# Altium integrated library NSC MiscPower.IntLib: 1417 symbols (part 5 of 39)
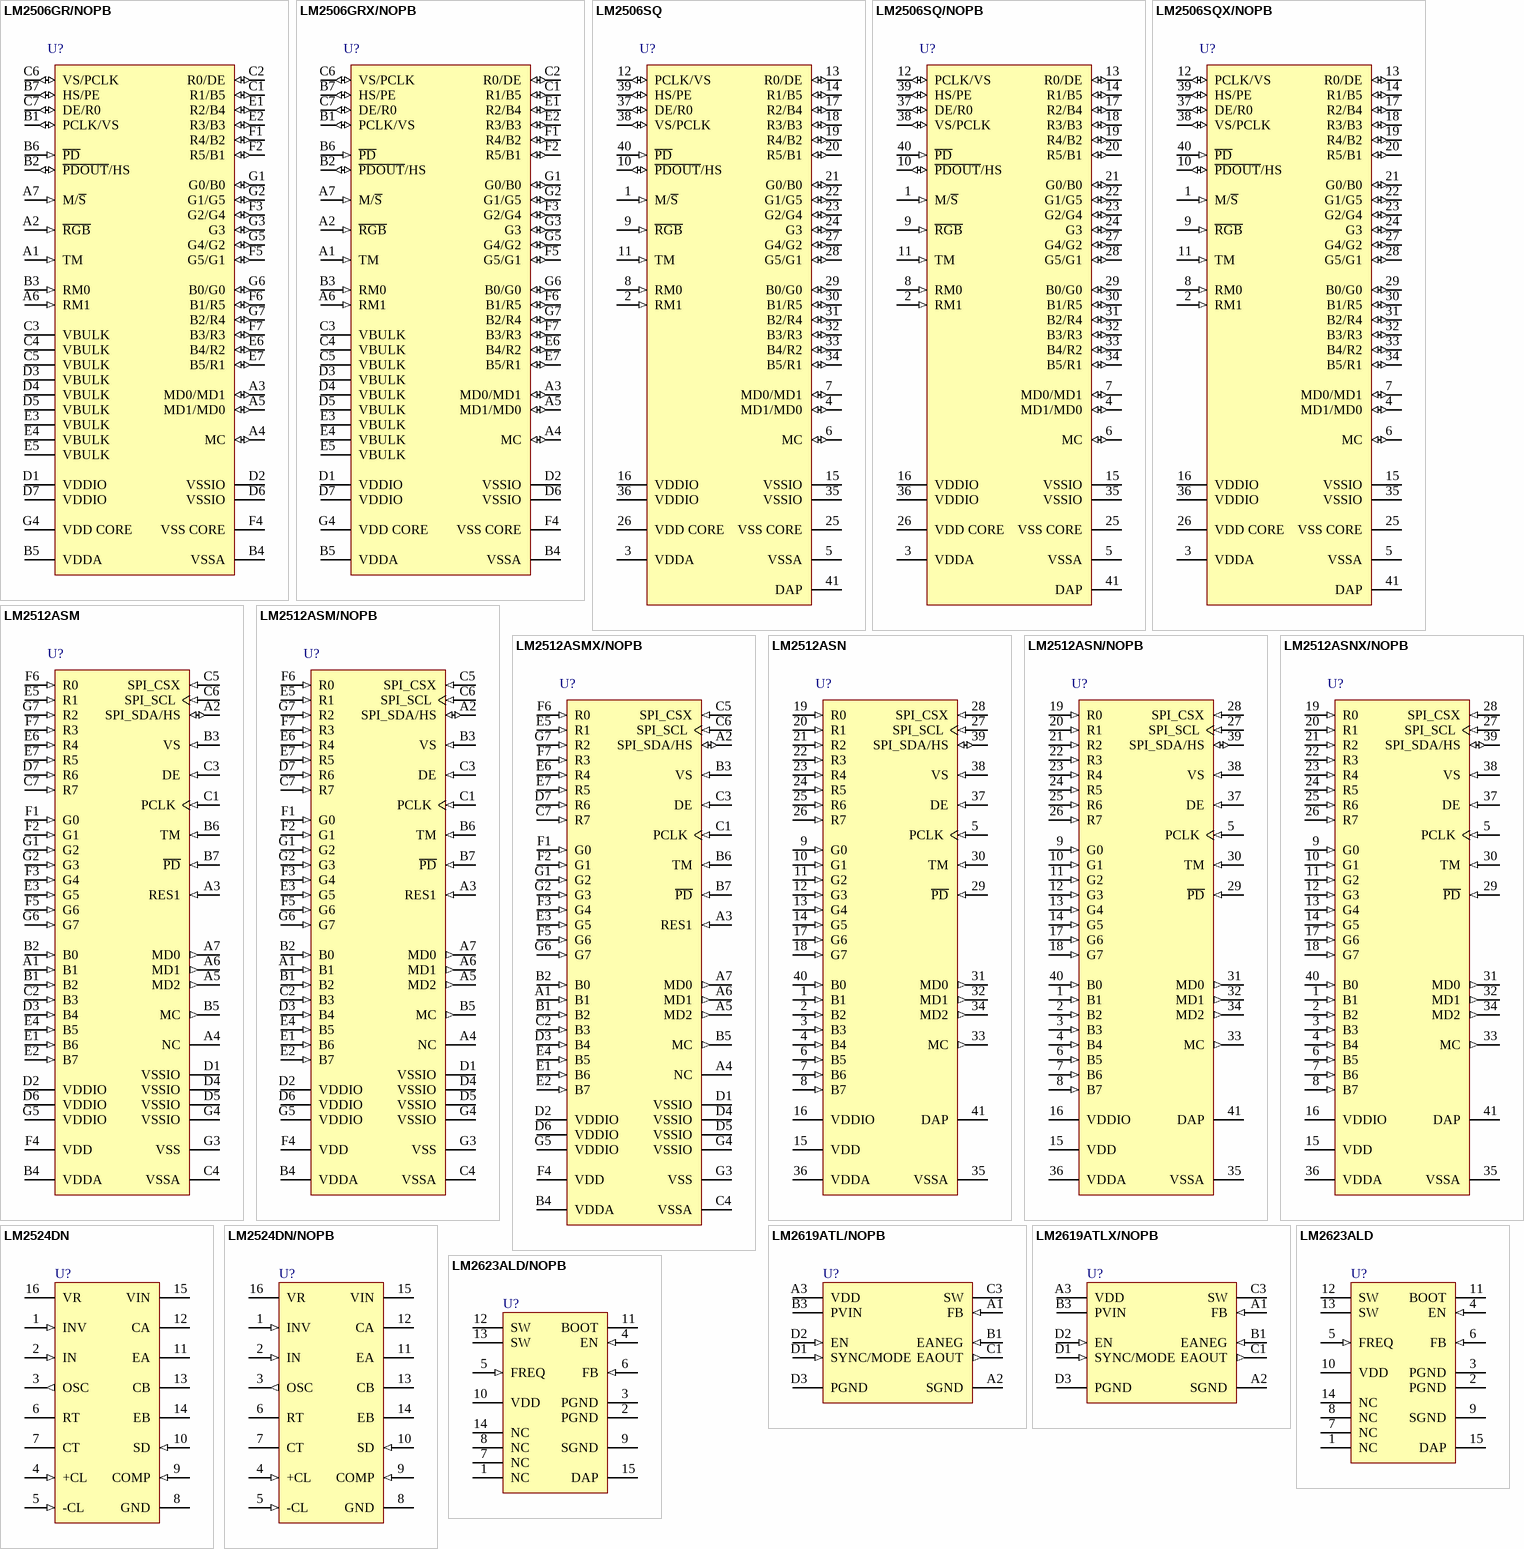
[diagram p55: symbols LM2506GR/NOPB to LM2623ALD/NOPB]

## LM2512ASM/NOPB
designator U?
Mobile Pixel Link (MPL-1), 24-Bit RGB Display Interface Serializer with Optional Dithering and Look Up Table, 49-pin UFBGA, Pb-Free; PartNumber: LM2512ASM/NOPB; Manufacturer: National Semiconductor; PackageTopMarking: ZXYTT*2512*ASM; PowerWise: N; CompType: MiscPower; Published: 1-Mar-2010; DatasheetVersion: Sep-2007; PackageVersion: revD, Jul-2007; PackageReference: SLH49A; Publisher: Altium Limited; PackageDescription: UFBGA, Plastic, Laminate, 4 x 4 x 1mm Body, 49 Ball, 0.5mm Pitch; Supplier 1: Digi-Key; Supplier Part Number 1: LM2512ASMTR-ND; Supplier 2: Digi-Key; Supplier Part Number 2: LM2512ASMCT-ND; Supplier 3: Digi-Key; Supplier Part Number 3: LM2512ASMDKR-ND; RoHS: Y; PinCount: 49; ComponentLink1Description: LM2512A Datasheet; ComponentLink1URL: http://www.national.com/ds/LM/LM2512A.pdf; ComponentLink2Description: LM2512A Web Page; ComponentLink2URL: http://www.national.com/pf/LM/LM2512A.html; ComponentLink3Description: SLH49A Package Page; ComponentLink3URL: http://www.national.com/packaging/folders/slh49a.html
footprint SLH49A (BGA, 49-Leads, Body 4x4mm, Pitch 0.5mm)
pins: A1 B1 (in), A2 SPI_SDA/HS (io), A3 RES1 (in), A4 NC, A5 MD2 (out), A6 MD1 (out), A7 MD0 (out), B1 B2 (in), B2 B0 (in), B3 VS (in), B4 VDDA (power), B5 MC (out), B6 TM (in), B7 ~{PD} (in), C1 PCLK (in), C2 B3 (in), C3 DE (in), C4 VSSA (power), C5 SPI_CSX (in), C6 SPI_SCL (in), C7 R7 (in), D1 VSSIO (power), D2 VDDIO (power), D3 B4 (in), D4 VSSIO (power), D5 VSSIO (power), D6 VDDIO (power), D7 R6 (in), E1 B6 (in), E2 B7 (in), E3 G5 (in), E4 B5 (in), E5 R1 (in), E6 R4 (in), E7 R5 (in), F1 G0 (in), F2 G1 (in), F3 G4 (in), F4 VDD (power), F5 G6 (in), F6 R0 (in), F7 R3 (in), G1 G2 (in), G2 G3 (in), G3 VSS (power), G4 VSSIO (power), G5 VDDIO (power), G6 G7 (in), G7 R2 (in)

## LM2512ASMX/NOPB
designator U?
Mobile Pixel Link (MPL-1), 24-Bit RGB Display Interface Serializer with Optional Dithering and Look Up Table, 49-pin UFBGA, Pb-Free; PartNumber: LM2512ASMX/NOPB; Manufacturer: National Semiconductor; PackageTopMarking: ZXYTT*2512*ASM; PowerWise: N; CompType: MiscPower; Published: 1-Mar-2010; DatasheetVersion: Sep-2007; PackageVersion: revD, Jul-2007; PackageReference: SLH49A; Publisher: Altium Limited; PackageDescription: UFBGA, Plastic, Laminate, 4 x 4 x 1mm Body, 49 Ball, 0.5mm Pitch; Supplier 1: Digi-Key; Supplier Part Number 1: LM2512ASMX-ND; RoHS: Y; PinCount: 49; ComponentLink1Description: LM2512A Datasheet; ComponentLink1URL: http://www.national.com/ds/LM/LM2512A.pdf; ComponentLink2Description: LM2512A Web Page; ComponentLink2URL: http://www.national.com/pf/LM/LM2512A.html; ComponentLink3Description: SLH49A Package Page; ComponentLink3URL: http://www.national.com/packaging/folders/slh49a.html
footprint SLH49A (BGA, 49-Leads, Body 4x4mm, Pitch 0.5mm)
pins: A1 B1 (in), A2 SPI_SDA/HS (io), A3 RES1 (in), A4 NC, A5 MD2 (out), A6 MD1 (out), A7 MD0 (out), B1 B2 (in), B2 B0 (in), B3 VS (in), B4 VDDA (power), B5 MC (out), B6 TM (in), B7 ~{PD} (in), C1 PCLK (in), C2 B3 (in), C3 DE (in), C4 VSSA (power), C5 SPI_CSX (in), C6 SPI_SCL (in), C7 R7 (in), D1 VSSIO (power), D2 VDDIO (power), D3 B4 (in), D4 VSSIO (power), D5 VSSIO (power), D6 VDDIO (power), D7 R6 (in), E1 B6 (in), E2 B7 (in), E3 G5 (in), E4 B5 (in), E5 R1 (in), E6 R4 (in), E7 R5 (in), F1 G0 (in), F2 G1 (in), F3 G4 (in), F4 VDD (power), F5 G6 (in), F6 R0 (in), F7 R3 (in), G1 G2 (in), G2 G3 (in), G3 VSS (power), G4 VSSIO (power), G5 VDDIO (power), G6 G7 (in), G7 R2 (in)

## LM2512ASN
designator U?
Mobile Pixel Link (MPL-1), 24-Bit RGB Display Interface Serializer with Optional Dithering and Look Up Table, 40-pin LLP; PartNumber: LM2512ASN; Manufacturer: National Semiconductor; PackageTopMarking: NS*UZXYTT*2512A; PowerWise: N; CompType: MiscPower; Published: 4-Dec-2008; DatasheetVersion: Sep-2007; PackageVersion: revA, Mar-2005; PackageReference: SNA40A; Publisher: Altium Limited; PackageDescription: Thin LLP, Quad, 6 x 6 x 0.4mm Body, 40 Lead, 0.5mm Pitch, No Pullback; RoHS: Y; PinCount: 40; ComponentLink1Description: LM2512A Datasheet; ComponentLink1URL: http://www.national.com/ds/LM/LM2512A.pdf; ComponentLink2Description: LM2512A Web Page; ComponentLink2URL: http://www.national.com/pf/LM/LM2512A.html; ComponentLink3Description: SNA40A Package Page; ComponentLink3URL: http://www.national.com/packaging/folders/sna40a.html
footprint SNA40A (QFN, 40-Leads, Body 6x6mm, Pitch 0.5mm, NSC Recommended)
pins: 1 B1 (in), 2 B2 (in), 3 B3 (in), 4 B4 (in), 5 PCLK (in), 6 B5 (in), 7 B6 (in), 8 B7 (in), 9 G0 (in), 10 G1 (in), 11 G2 (in), 12 G3 (in), 13 G4 (in), 14 G5 (in), 15 VDD (power), 16 VDDIO (power), 17 G6 (in), 18 G7 (in), 19 R0 (in), 20 R1 (in), 21 R2 (in), 22 R3 (in), 23 R4 (in), 24 R5 (in), 25 R6 (in), 26 R7 (in), 27 SPI_SCL (in), 28 SPI_CSX (in), 29 ~{PD} (in), 30 TM (in), 31 MD0 (out), 32 MD1 (out), 33 MC (out), 34 MD2 (out), 35 VSSA (power), 36 VDDA (power), 37 DE (in), 38 VS (in), 39 SPI_SDA/HS (io), 40 B0 (in), 41 DAP (power)

## LM2512ASN/NOPB
designator U?
Mobile Pixel Link (MPL-1), 24-Bit RGB Display Interface Serializer with Optional Dithering and Look Up Table, 40-pin LLP, Pb-Free; PartNumber: LM2512ASN/NOPB; Manufacturer: National Semiconductor; PackageTopMarking: NS*UZXYTTE#*2512A; PowerWise: N; CompType: MiscPower; Published: 1-Mar-2010; DatasheetVersion: Sep-2007; PackageVersion: revA, Mar-2005; PackageReference: SNA40A; Publisher: Altium Limited; PackageDescription: Thin LLP, Quad, 6 x 6 x 0.4mm Body, 40 Lead, 0.5mm Pitch, No Pullback; Supplier 1: Digi-Key; Supplier Part Number 1: LM2512ASNTR-ND; Supplier 2: Digi-Key; Supplier Part Number 2: LM2512ASNCT-ND; Supplier 3: Digi-Key; Supplier Part Number 3: LM2512ASNDKR-ND; RoHS: Y; PinCount: 40; ComponentLink1Description: LM2512A Datasheet; ComponentLink1URL: http://www.national.com/ds/LM/LM2512A.pdf; ComponentLink2Description: LM2512A Web Page; ComponentLink2URL: http://www.national.com/pf/LM/LM2512A.html; ComponentLink3Description: SNA40A Package Page; ComponentLink3URL: http://www.national.com/packaging/folders/sna40a.html
footprint SNA40A (QFN, 40-Leads, Body 6x6mm, Pitch 0.5mm, NSC Recommended)
pins: 1 B1 (in), 2 B2 (in), 3 B3 (in), 4 B4 (in), 5 PCLK (in), 6 B5 (in), 7 B6 (in), 8 B7 (in), 9 G0 (in), 10 G1 (in), 11 G2 (in), 12 G3 (in), 13 G4 (in), 14 G5 (in), 15 VDD (power), 16 VDDIO (power), 17 G6 (in), 18 G7 (in), 19 R0 (in), 20 R1 (in), 21 R2 (in), 22 R3 (in), 23 R4 (in), 24 R5 (in), 25 R6 (in), 26 R7 (in), 27 SPI_SCL (in), 28 SPI_CSX (in), 29 ~{PD} (in), 30 TM (in), 31 MD0 (out), 32 MD1 (out), 33 MC (out), 34 MD2 (out), 35 VSSA (power), 36 VDDA (power), 37 DE (in), 38 VS (in), 39 SPI_SDA/HS (io), 40 B0 (in), 41 DAP (power)

## LM2512ASNX/NOPB
designator U?
Mobile Pixel Link (MPL-1), 24-Bit RGB Display Interface Serializer with Optional Dithering and Look Up Table, 40-pin LLP, Pb-Free; PartNumber: LM2512ASNX/NOPB; Manufacturer: National Semiconductor; PackageTopMarking: NS*UZXYTTE#*2512A; PowerWise: N; CompType: MiscPower; Published: 1-Mar-2010; DatasheetVersion: Sep-2007; PackageVersion: revA, Mar-2005; PackageReference: SNA40A; Publisher: Altium Limited; PackageDescription: Thin LLP, Quad, 6 x 6 x 0.4mm Body, 40 Lead, 0.5mm Pitch, No Pullback; Supplier 1: Digi-Key; Supplier Part Number 1: LM2512ASNX-ND; RoHS: Y; PinCount: 40; ComponentLink1Description: LM2512A Datasheet; ComponentLink1URL: http://www.national.com/ds/LM/LM2512A.pdf; ComponentLink2Description: LM2512A Web Page; ComponentLink2URL: http://www.national.com/pf/LM/LM2512A.html; ComponentLink3Description: SNA40A Package Page; ComponentLink3URL: http://www.national.com/packaging/folders/sna40a.html
footprint SNA40A (QFN, 40-Leads, Body 6x6mm, Pitch 0.5mm, NSC Recommended)
pins: 1 B1 (in), 2 B2 (in), 3 B3 (in), 4 B4 (in), 5 PCLK (in), 6 B5 (in), 7 B6 (in), 8 B7 (in), 9 G0 (in), 10 G1 (in), 11 G2 (in), 12 G3 (in), 13 G4 (in), 14 G5 (in), 15 VDD (power), 16 VDDIO (power), 17 G6 (in), 18 G7 (in), 19 R0 (in), 20 R1 (in), 21 R2 (in), 22 R3 (in), 23 R4 (in), 24 R5 (in), 25 R6 (in), 26 R7 (in), 27 SPI_SCL (in), 28 SPI_CSX (in), 29 ~{PD} (in), 30 TM (in), 31 MD0 (out), 32 MD1 (out), 33 MC (out), 34 MD2 (out), 35 VSSA (power), 36 VDDA (power), 37 DE (in), 38 VS (in), 39 SPI_SDA/HS (io), 40 B0 (in), 41 DAP (power)

## LM2524DN
designator U?
Regulating Pulse Width Modulator, 16-pin MDIP; PartNumber: LM2524DN; Manufacturer: National Semiconductor; PackageTopMarking: NSUZXYYTTE#*LM2524DN; PowerWise: N; CompType: MiscPower; Published: 4-Dec-2008; DatasheetVersion: May-2008; PackageVersion: revG, May-2006; PackageReference: N16E; Publisher: Altium Limited; PackageDescription: MDIP, .750 x .250 x .130in, 16 Lead, .100in Pitch; RoHS: N; PinCount: 16; Code_JEDEC: MS-001-BB; ComponentLink1Description: LM2524D Datasheet; ComponentLink1URL: http://www.national.com/ds/LM/LM2524D.pdf; ComponentLink2Description: LM2524D Web Page; ComponentLink2URL: http://www.national.com/pf/LM/LM2524D.html; ComponentLink3Description: N16E Package Page; ComponentLink3URL: http://www.national.com/packaging/folders/n16e.html
footprint N16E (DIP, 16-Leads, Row Spacing 7.62mm, Pitch 2.54mm, Body 19.3x6.35mm)
pins: 1 INV (in), 2 IN (in), 3 OSC (out), 4 +CL (in), 5 -CL (in), 6 RT, 7 CT, 8 GND (power), 9 COMP (in), 10 SD (in), 11 EA, 12 CA, 13 CB, 14 EB, 15 VIN (power), 16 VR (power)

## LM2524DN/NOPB
designator U?
Regulating Pulse Width Modulator, 16-pin MDIP, Pb-Free; PartNumber: LM2524DN/NOPB; Manufacturer: National Semiconductor; PackageTopMarking: NSUZXYYTTE#*LM2524DN; PowerWise: N; CompType: MiscPower; Published: 1-Mar-2010; DatasheetVersion: May-2008; PackageVersion: revG, May-2006; PackageReference: N16E; Publisher: Altium Limited; PackageDescription: MDIP, .750 x .250 x .130in, 16 Lead, .100in Pitch; Supplier 1: Digi-Key; Supplier Part Number 1: LM2524DN-ND; Supplier 2: Farnell; Supplier Part Number 2: 1685605; RoHS: Y; PinCount: 16; Code_JEDEC: MS-001-BB; ComponentLink1Description: LM2524D Datasheet; ComponentLink1URL: http://www.national.com/ds/LM/LM2524D.pdf; ComponentLink2Description: LM2524D Web Page; ComponentLink2URL: http://www.national.com/pf/LM/LM2524D.html; ComponentLink3Description: N16E Package Page; ComponentLink3URL: http://www.national.com/packaging/folders/n16e.html
footprint N16E (DIP, 16-Leads, Row Spacing 7.62mm, Pitch 2.54mm, Body 19.3x6.35mm)
pins: 1 INV (in), 2 IN (in), 3 OSC (out), 4 +CL (in), 5 -CL (in), 6 RT, 7 CT, 8 GND (power), 9 COMP (in), 10 SD (in), 11 EA, 12 CA, 13 CB, 14 EB, 15 VIN (power), 16 VR (power)

## LM2619ATL/NOPB
designator U?
500mA Sub-Miniature Step-Down DC-DC Converter, 10-pin Micro SMD, Pb-Free; PartNumber: LM2619ATL/NOPB; Manufacturer: National Semiconductor; PackageTopMarking: XYTT*I S76A; PowerWise: N; CompType: MiscPower; Published: 1-Mar-2010; DatasheetVersion: Oct-2003; PackageVersion: revD, Mar-2004; PackageReference: TLP108WA; Publisher: Altium Limited; PackageDescription: Thin Micro SMD, 10 Bump (Large), Periperal, 0.5mm Pitch; Supplier 1: Digi-Key; Supplier Part Number 1: LM2619ATLTR-ND; Supplier 2: Digi-Key; Supplier Part Number 2: LM2619ATLCT-ND; Supplier 3: Digi-Key; Supplier Part Number 3: LM2619ATLDKR-ND; RoHS: Y; PinCount: 10; Code_JEDEC: MO-211-BD; ComponentLink1Description: LM2619 Datasheet; ComponentLink1URL: http://www.national.com/ds/LM/LM2619.pdf; ComponentLink2Description: LM2619 Web Page; ComponentLink2URL: http://www.national.com/pf/LM/LM2619.html; ComponentLink3Description: TLP108WA Package Page; ComponentLink3URL: http://www.national.com/packaging/folders/tlp108wa.html
footprint TLP108WA (Micro SMD, 10-Leads, Body 2.5x2.25mm, Pitch 0.5mm, NSC Recommended)
pins: A1 FB (in), A2 SGND (power), A3 VDD (power), B1 EANEG (in), B3 PVIN (power), C1 EAOUT (out), C3 SW (power), D1 SYNC/MODE (in), D2 EN (in), D3 PGND (power)

## LM2619ATLX/NOPB
designator U?
500mA Sub-Miniature Step-Down DC-DC Converter, 10-pin Micro SMD, Pb-Free; PartNumber: LM2619ATLX/NOPB; Manufacturer: National Semiconductor; PackageTopMarking: XYTT*I S76A; PowerWise: N; CompType: MiscPower; Published: 1-Mar-2010; DatasheetVersion: Oct-2003; PackageVersion: revD, Mar-2004; PackageReference: TLP108WA; Publisher: Altium Limited; PackageDescription: Thin Micro SMD, 10 Bump (Large), Periperal, 0.5mm Pitch; Supplier 1: Digi-Key; Supplier Part Number 1: LM2619ATLX-ND; RoHS: Y; PinCount: 10; Code_JEDEC: MO-211-BD; ComponentLink1Description: LM2619 Datasheet; ComponentLink1URL: http://www.national.com/ds/LM/LM2619.pdf; ComponentLink2Description: LM2619 Web Page; ComponentLink2URL: http://www.national.com/pf/LM/LM2619.html; ComponentLink3Description: TLP108WA Package Page; ComponentLink3URL: http://www.national.com/packaging/folders/tlp108wa.html
footprint TLP108WA (Micro SMD, 10-Leads, Body 2.5x2.25mm, Pitch 0.5mm, NSC Recommended)
pins: A1 FB (in), A2 SGND (power), A3 VDD (power), B1 EANEG (in), B3 PVIN (power), C1 EAOUT (out), C3 SW (power), D1 SYNC/MODE (in), D2 EN (in), D3 PGND (power)

## LM2623ALD
designator U?
General Purpose, Gated Oscillator Based, DC/DC Boost Converter, 14-pin LLP; PartNumber: LM2623ALD; Manufacturer: National Semiconductor; PackageTopMarking: NS*UZXYTT*2623A; PowerWise: N; CompType: MiscPower; Published: 4-Dec-2008; DatasheetVersion: Dec-2005; PackageVersion: revA, Aug-2000; PackageReference: LDA14A; Publisher: Altium Limited; PackageDescription: LLP, Plastic, Dual, 4 x 4 x 0.75mm Body, 14 Lead, 0.5mm Pitch; RoHS: N; PinCount: 14; ComponentLink1Description: LM2623 Datasheet; ComponentLink1URL: http://www.national.com/ds/LM/LM2623.pdf; ComponentLink2Description: LM2623 Web Page; ComponentLink2URL: http://www.national.com/pf/LM/LM2623.html; ComponentLink3Description: LDA14A Package Page; ComponentLink3URL: http://www.national.com/packaging/folders/lda14a.html
footprint LDA14A (PSON, 14-Leads, Body 4x4mm, Pitch 0.5mm, NSC Recommended)
pins: 1 NC, 2 PGND (power), 3 PGND (power), 4 EN (in), 5 FREQ (in), 6 FB (in), 7 NC, 8 NC, 9 SGND (power), 10 VDD (power), 11 BOOT, 12 SW (oc), 13 SW (oc), 14 NC, 15 DAP (power)

## LM2623ALD/NOPB
designator U?
General Purpose, Gated Oscillator Based, DC/DC Boost Converter, 14-pin LLP, Pb-Free; PartNumber: LM2623ALD/NOPB; Manufacturer: National Semiconductor; PackageTopMarking: NS*UZXYTT*2623A; PowerWise: N; CompType: MiscPower; Published: 1-Mar-2010; DatasheetVersion: Dec-2005; PackageVersion: revA, Aug-2000; PackageReference: LDA14A; Publisher: Altium Limited; PackageDescription: LLP, Plastic, Dual, 4 x 4 x 0.75mm Body, 14 Lead, 0.5mm Pitch; Supplier 1: Digi-Key; Supplier Part Number 1: LM2623ALDTR-ND; Supplier 2: Digi-Key; Supplier Part Number 2: LM2623ALDCT-ND; Supplier 3: Digi-Key; Supplier Part Number 3: LM2623ALDDKR-ND; RoHS: Y; PinCount: 14; ComponentLink1Description: LM2623 Datasheet; ComponentLink1URL: http://www.national.com/ds/LM/LM2623.pdf; ComponentLink2Description: LM2623 Web Page; ComponentLink2URL: http://www.national.com/pf/LM/LM2623.html; ComponentLink3Description: LDA14A Package Page; ComponentLink3URL: http://www.national.com/packaging/folders/lda14a.html
footprint LDA14A (PSON, 14-Leads, Body 4x4mm, Pitch 0.5mm, NSC Recommended)
pins: 1 NC, 2 PGND (power), 3 PGND (power), 4 EN (in), 5 FREQ (in), 6 FB (in), 7 NC, 8 NC, 9 SGND (power), 10 VDD (power), 11 BOOT, 12 SW (oc), 13 SW (oc), 14 NC, 15 DAP (power)

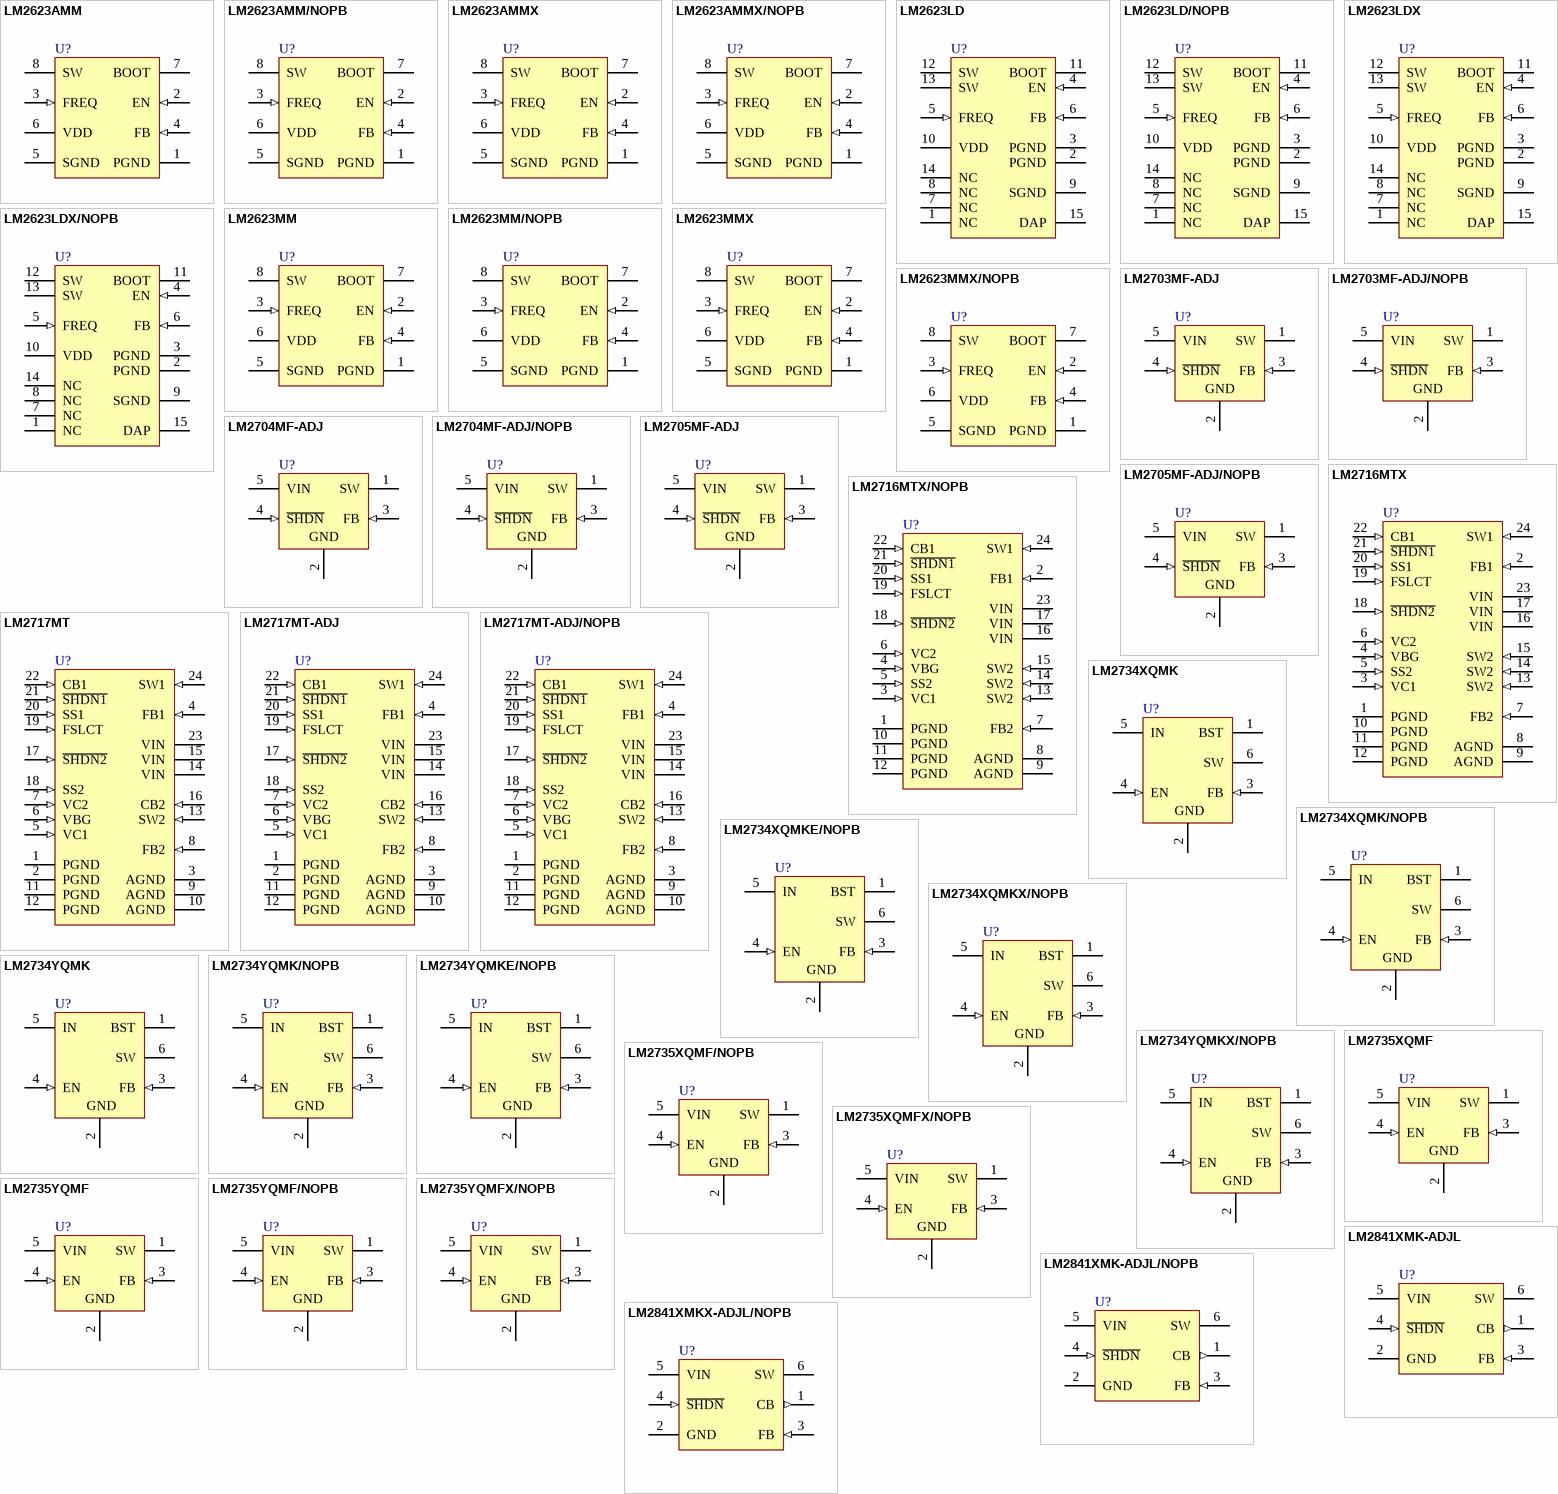
[diagram p6: symbols LM2623AMM to LM2841XMKX-ADJL/NOPB]

## LM2623AMM
designator U?
General Purpose, Gated Oscillator Based, DC/DC Boost Converter, 8-pin MSOP; PartNumber: LM2623AMM; Manufacturer: National Semiconductor; PackageTopMarking: ZXTT*S46A; PowerWise: N; CompType: MiscPower; Published: 4-Dec-2008; DatasheetVersion: Dec-2005; PackageVersion: revF, Apr-2008; PackageReference: MUA08A; Publisher: Altium Limited; PackageDescription: MINI SOIC, .118 x .118 x .034in, 8 Lead, .0256in Pitch; Supplier 1: Farnell; Supplier Part Number 1: 8207445; RoHS: N; PinCount: 8; Code_JEDEC: MO-187-AA; ComponentLink1Description: LM2623 Datasheet; ComponentLink1URL: http://www.national.com/ds/LM/LM2623.pdf; ComponentLink2Description: LM2623 Web Page; ComponentLink2URL: http://www.national.com/pf/LM/LM2623.html; ComponentLink3Description: MUA08A Package Page; ComponentLink3URL: http://www.national.com/packaging/folders/mua08a.html
footprint MUA08A_N (TSOP, 8-Leads, Body 3x3mm, Pitch 0.65mm, IPC Medium Density)
footprint MUA08A_L (TSOP, 8-Leads, Body 3x3mm, Pitch 0.65mm, IPC High Density)
footprint MUA08A_M (TSOP, 8-Leads, Body 3x3mm, Pitch 0.65mm, IPC Low Density)
pins: 1 PGND (power), 2 EN (in), 3 FREQ (in), 4 FB (in), 5 SGND (power), 6 VDD (power), 7 BOOT, 8 SW (oc)

## LM2623AMM/NOPB
designator U?
General Purpose, Gated Oscillator Based, DC/DC Boost Converter, 8-pin MSOP, Pb-Free; PartNumber: LM2623AMM/NOPB; Manufacturer: National Semiconductor; PackageTopMarking: ZXTT*S46A; PowerWise: N; CompType: MiscPower; Published: 1-Mar-2010; DatasheetVersion: Dec-2005; PackageVersion: revF, Apr-2008; PackageReference: MUA08A; Publisher: Altium Limited; PackageDescription: MINI SOIC, .118 x .118 x .034in, 8 Lead, .0256in Pitch; Supplier 1: Digi-Key; Supplier Part Number 1: LM2623AMMTR-ND; Supplier 2: Digi-Key; Supplier Part Number 2: LM2623AMMCT-ND; Supplier 3: Digi-Key; Supplier Part Number 3: LM2623AMMDKR-ND; Supplier 4: Farnell; Supplier Part Number 4: 1496095; RoHS: Y; PinCount: 8; Code_JEDEC: MO-187-AA; ComponentLink1Description: LM2623 Datasheet; ComponentLink1URL: http://www.national.com/ds/LM/LM2623.pdf; ComponentLink2Description: LM2623 Web Page; ComponentLink2URL: http://www.national.com/pf/LM/LM2623.html; ComponentLink3Description: MUA08A Package Page; ComponentLink3URL: http://www.national.com/packaging/folders/mua08a.html
footprint MUA08A_N (TSOP, 8-Leads, Body 3x3mm, Pitch 0.65mm, IPC Medium Density)
footprint MUA08A_L (TSOP, 8-Leads, Body 3x3mm, Pitch 0.65mm, IPC High Density)
footprint MUA08A_M (TSOP, 8-Leads, Body 3x3mm, Pitch 0.65mm, IPC Low Density)
pins: 1 PGND (power), 2 EN (in), 3 FREQ (in), 4 FB (in), 5 SGND (power), 6 VDD (power), 7 BOOT, 8 SW (oc)

## LM2623AMMX
designator U?
General Purpose, Gated Oscillator Based, DC/DC Boost Converter, 8-pin MSOP; PartNumber: LM2623AMMX; Manufacturer: National Semiconductor; PackageTopMarking: ZXTT*S46A; PowerWise: N; CompType: MiscPower; Published: 1-Mar-2010; DatasheetVersion: Dec-2005; PackageVersion: revF, Apr-2008; PackageReference: MUA08A; Publisher: Altium Limited; PackageDescription: MINI SOIC, .118 x .118 x .034in, 8 Lead, .0256in Pitch; RoHS: N; PinCount: 8; Code_JEDEC: MO-187-AA; ComponentLink1Description: LM2623 Datasheet; ComponentLink1URL: http://www.national.com/ds/LM/LM2623.pdf; ComponentLink2Description: LM2623 Web Page; ComponentLink2URL: http://www.national.com/pf/LM/LM2623.html; ComponentLink3Description: MUA08A Package Page; ComponentLink3URL: http://www.national.com/packaging/folders/mua08a.html
footprint MUA08A_N (TSOP, 8-Leads, Body 3x3mm, Pitch 0.65mm, IPC Medium Density)
footprint MUA08A_L (TSOP, 8-Leads, Body 3x3mm, Pitch 0.65mm, IPC High Density)
footprint MUA08A_M (TSOP, 8-Leads, Body 3x3mm, Pitch 0.65mm, IPC Low Density)
pins: 1 PGND (power), 2 EN (in), 3 FREQ (in), 4 FB (in), 5 SGND (power), 6 VDD (power), 7 BOOT, 8 SW (oc)

## LM2623AMMX/NOPB
designator U?
General Purpose, Gated Oscillator Based, DC/DC Boost Converter, 8-pin MSOP, Pb-Free; PartNumber: LM2623AMMX/NOPB; Manufacturer: National Semiconductor; PackageTopMarking: ZXTT*S46A; PowerWise: N; CompType: MiscPower; Published: 1-Mar-2010; DatasheetVersion: Dec-2005; PackageVersion: revF, Apr-2008; PackageReference: MUA08A; Publisher: Altium Limited; PackageDescription: MINI SOIC, .118 x .118 x .034in, 8 Lead, .0256in Pitch; Supplier 1: Digi-Key; Supplier Part Number 1: LM2623AMMX-ND; RoHS: Y; PinCount: 8; Code_JEDEC: MO-187-AA; ComponentLink1Description: LM2623 Datasheet; ComponentLink1URL: http://www.national.com/ds/LM/LM2623.pdf; ComponentLink2Description: LM2623 Web Page; ComponentLink2URL: http://www.national.com/pf/LM/LM2623.html; ComponentLink3Description: MUA08A Package Page; ComponentLink3URL: http://www.national.com/packaging/folders/mua08a.html
footprint MUA08A_N (TSOP, 8-Leads, Body 3x3mm, Pitch 0.65mm, IPC Medium Density)
footprint MUA08A_L (TSOP, 8-Leads, Body 3x3mm, Pitch 0.65mm, IPC High Density)
footprint MUA08A_M (TSOP, 8-Leads, Body 3x3mm, Pitch 0.65mm, IPC Low Density)
pins: 1 PGND (power), 2 EN (in), 3 FREQ (in), 4 FB (in), 5 SGND (power), 6 VDD (power), 7 BOOT, 8 SW (oc)

## LM2623LD
designator U?
General Purpose, Gated Oscillator Based, DC/DC Boost Converter, 14-pin LLP; PartNumber: LM2623LD; Manufacturer: National Semiconductor; PackageTopMarking: NS*UZXYTT*2623AB; PowerWise: N; CompType: MiscPower; Published: 4-Dec-2008; DatasheetVersion: Dec-2005; PackageVersion: revA, Aug-2000; PackageReference: LDA14A; Publisher: Altium Limited; PackageDescription: LLP, Plastic, Dual, 4 x 4 x 0.75mm Body, 14 Lead, 0.5mm Pitch; RoHS: N; PinCount: 14; ComponentLink1Description: LM2623 Datasheet; ComponentLink1URL: http://www.national.com/ds/LM/LM2623.pdf; ComponentLink2Description: LM2623 Web Page; ComponentLink2URL: http://www.national.com/pf/LM/LM2623.html; ComponentLink3Description: LDA14A Package Page; ComponentLink3URL: http://www.national.com/packaging/folders/lda14a.html
footprint LDA14A (PSON, 14-Leads, Body 4x4mm, Pitch 0.5mm, NSC Recommended)
pins: 1 NC, 2 PGND (power), 3 PGND (power), 4 EN (in), 5 FREQ (in), 6 FB (in), 7 NC, 8 NC, 9 SGND (power), 10 VDD (power), 11 BOOT, 12 SW (oc), 13 SW (oc), 14 NC, 15 DAP (power)

## LM2623LD/NOPB
designator U?
General Purpose, Gated Oscillator Based, DC/DC Boost Converter, 14-pin LLP, Pb-Free; PartNumber: LM2623LD/NOPB; Manufacturer: National Semiconductor; PackageTopMarking: NS*UZXYTT*2623AB; PowerWise: N; CompType: MiscPower; Published: 1-Mar-2010; DatasheetVersion: Dec-2005; PackageVersion: revA, Aug-2000; PackageReference: LDA14A; Publisher: Altium Limited; PackageDescription: LLP, Plastic, Dual, 4 x 4 x 0.75mm Body, 14 Lead, 0.5mm Pitch; Supplier 1: Digi-Key; Supplier Part Number 1: LM2623LDTR-ND; Supplier 2: Digi-Key; Supplier Part Number 2: LM2623LDCT-ND; Supplier 3: Digi-Key; Supplier Part Number 3: LM2623LDDKR-ND; RoHS: Y; PinCount: 14; ComponentLink1Description: LM2623 Datasheet; ComponentLink1URL: http://www.national.com/ds/LM/LM2623.pdf; ComponentLink2Description: LM2623 Web Page; ComponentLink2URL: http://www.national.com/pf/LM/LM2623.html; ComponentLink3Description: LDA14A Package Page; ComponentLink3URL: http://www.national.com/packaging/folders/lda14a.html
footprint LDA14A (PSON, 14-Leads, Body 4x4mm, Pitch 0.5mm, NSC Recommended)
pins: 1 NC, 2 PGND (power), 3 PGND (power), 4 EN (in), 5 FREQ (in), 6 FB (in), 7 NC, 8 NC, 9 SGND (power), 10 VDD (power), 11 BOOT, 12 SW (oc), 13 SW (oc), 14 NC, 15 DAP (power)

## LM2623LDX
designator U?
General Purpose, Gated Oscillator Based, DC/DC Boost Converter, 14-pin LLP; PartNumber: LM2623LDX; Manufacturer: National Semiconductor; PackageTopMarking: NS*UZXYTT*2623AB; PowerWise: N; CompType: MiscPower; Published: 1-Mar-2010; DatasheetVersion: Dec-2005; PackageVersion: revA, Aug-2000; PackageReference: LDA14A; Publisher: Altium Limited; PackageDescription: LLP, Plastic, Dual, 4 x 4 x 0.75mm Body, 14 Lead, 0.5mm Pitch; RoHS: N; PinCount: 14; ComponentLink1Description: LM2623 Datasheet; ComponentLink1URL: http://www.national.com/ds/LM/LM2623.pdf; ComponentLink2Description: LM2623 Web Page; ComponentLink2URL: http://www.national.com/pf/LM/LM2623.html; ComponentLink3Description: LDA14A Package Page; ComponentLink3URL: http://www.national.com/packaging/folders/lda14a.html
footprint LDA14A (PSON, 14-Leads, Body 4x4mm, Pitch 0.5mm, NSC Recommended)
pins: 1 NC, 2 PGND (power), 3 PGND (power), 4 EN (in), 5 FREQ (in), 6 FB (in), 7 NC, 8 NC, 9 SGND (power), 10 VDD (power), 11 BOOT, 12 SW (oc), 13 SW (oc), 14 NC, 15 DAP (power)

## LM2623LDX/NOPB
designator U?
General Purpose, Gated Oscillator Based, DC/DC Boost Converter, 14-pin LLP, Pb-Free; PartNumber: LM2623LDX/NOPB; Manufacturer: National Semiconductor; PackageTopMarking: NS*UZXYTT*2623AB; PowerWise: N; CompType: MiscPower; Published: 1-Mar-2010; DatasheetVersion: Dec-2005; PackageVersion: revA, Aug-2000; PackageReference: LDA14A; Publisher: Altium Limited; PackageDescription: LLP, Plastic, Dual, 4 x 4 x 0.75mm Body, 14 Lead, 0.5mm Pitch; Supplier 1: Digi-Key; Supplier Part Number 1: LM2623LDX-ND; RoHS: Y; PinCount: 14; ComponentLink1Description: LM2623 Datasheet; ComponentLink1URL: http://www.national.com/ds/LM/LM2623.pdf; ComponentLink2Description: LM2623 Web Page; ComponentLink2URL: http://www.national.com/pf/LM/LM2623.html; ComponentLink3Description: LDA14A Package Page; ComponentLink3URL: http://www.national.com/packaging/folders/lda14a.html
footprint LDA14A (PSON, 14-Leads, Body 4x4mm, Pitch 0.5mm, NSC Recommended)
pins: 1 NC, 2 PGND (power), 3 PGND (power), 4 EN (in), 5 FREQ (in), 6 FB (in), 7 NC, 8 NC, 9 SGND (power), 10 VDD (power), 11 BOOT, 12 SW (oc), 13 SW (oc), 14 NC, 15 DAP (power)

## LM2623MM
designator U?
General Purpose, Gated Oscillator Based, DC/DC Boost Converter, 8-pin MSOP; PartNumber: LM2623MM; Manufacturer: National Semiconductor; PackageTopMarking: ZXTT*S46B; PowerWise: N; CompType: MiscPower; Published: 4-Dec-2008; DatasheetVersion: Dec-2005; PackageVersion: revF, Apr-2008; PackageReference: MUA08A; Publisher: Altium Limited; PackageDescription: MINI SOIC, .118 x .118 x .034in, 8 Lead, .0256in Pitch; Supplier 1: Farnell; Supplier Part Number 1: 8207453RL; Supplier 2: Farnell; Supplier Part Number 2: 8207453; RoHS: N; PinCount: 8; Code_JEDEC: MO-187-AA; ComponentLink1Description: LM2623 Datasheet; ComponentLink1URL: http://www.national.com/ds/LM/LM2623.pdf; ComponentLink2Description: LM2623 Web Page; ComponentLink2URL: http://www.national.com/pf/LM/LM2623.html; ComponentLink3Description: MUA08A Package Page; ComponentLink3URL: http://www.national.com/packaging/folders/mua08a.html
footprint MUA08A_N (TSOP, 8-Leads, Body 3x3mm, Pitch 0.65mm, IPC Medium Density)
footprint MUA08A_L (TSOP, 8-Leads, Body 3x3mm, Pitch 0.65mm, IPC High Density)
footprint MUA08A_M (TSOP, 8-Leads, Body 3x3mm, Pitch 0.65mm, IPC Low Density)
pins: 1 PGND (power), 2 EN (in), 3 FREQ (in), 4 FB (in), 5 SGND (power), 6 VDD (power), 7 BOOT, 8 SW (oc)

## LM2623MM/NOPB
designator U?
General Purpose, Gated Oscillator Based, DC/DC Boost Converter, 8-pin MSOP, Pb-Free; PartNumber: LM2623MM/NOPB; Manufacturer: National Semiconductor; PackageTopMarking: ZXTT*S46B; PowerWise: N; CompType: MiscPower; Published: 1-Mar-2010; DatasheetVersion: Dec-2005; PackageVersion: revF, Apr-2008; PackageReference: MUA08A; Publisher: Altium Limited; PackageDescription: MINI SOIC, .118 x .118 x .034in, 8 Lead, .0256in Pitch; Supplier 1: Digi-Key; Supplier Part Number 1: LM2623MMTR-ND; Supplier 2: Digi-Key; Supplier Part Number 2: LM2623MMCT-ND; Supplier 3: Digi-Key; Supplier Part Number 3: LM2623MMDKR-ND; Supplier 4: Farnell; Supplier Part Number 4: 1693999; RoHS: Y; PinCount: 8; Code_JEDEC: MO-187-AA; ComponentLink1Description: LM2623 Datasheet; ComponentLink1URL: http://www.national.com/ds/LM/LM2623.pdf; ComponentLink2Description: LM2623 Web Page; ComponentLink2URL: http://www.national.com/pf/LM/LM2623.html; ComponentLink3Description: MUA08A Package Page; ComponentLink3URL: http://www.national.com/packaging/folders/mua08a.html
footprint MUA08A_N (TSOP, 8-Leads, Body 3x3mm, Pitch 0.65mm, IPC Medium Density)
footprint MUA08A_L (TSOP, 8-Leads, Body 3x3mm, Pitch 0.65mm, IPC High Density)
footprint MUA08A_M (TSOP, 8-Leads, Body 3x3mm, Pitch 0.65mm, IPC Low Density)
pins: 1 PGND (power), 2 EN (in), 3 FREQ (in), 4 FB (in), 5 SGND (power), 6 VDD (power), 7 BOOT, 8 SW (oc)

## LM2623MMX
designator U?
General Purpose, Gated Oscillator Based, DC/DC Boost Converter, 8-pin MSOP; PartNumber: LM2623MMX; Manufacturer: National Semiconductor; PackageTopMarking: ZXTT*S46B; PowerWise: N; CompType: MiscPower; Published: 1-Mar-2010; DatasheetVersion: Dec-2005; PackageVersion: revF, Apr-2008; PackageReference: MUA08A; Publisher: Altium Limited; PackageDescription: MINI SOIC, .118 x .118 x .034in, 8 Lead, .0256in Pitch; RoHS: N; PinCount: 8; Code_JEDEC: MO-187-AA; ComponentLink1Description: LM2623 Datasheet; ComponentLink1URL: http://www.national.com/ds/LM/LM2623.pdf; ComponentLink2Description: LM2623 Web Page; ComponentLink2URL: http://www.national.com/pf/LM/LM2623.html; ComponentLink3Description: MUA08A Package Page; ComponentLink3URL: http://www.national.com/packaging/folders/mua08a.html
footprint MUA08A_N (TSOP, 8-Leads, Body 3x3mm, Pitch 0.65mm, IPC Medium Density)
footprint MUA08A_L (TSOP, 8-Leads, Body 3x3mm, Pitch 0.65mm, IPC High Density)
footprint MUA08A_M (TSOP, 8-Leads, Body 3x3mm, Pitch 0.65mm, IPC Low Density)
pins: 1 PGND (power), 2 EN (in), 3 FREQ (in), 4 FB (in), 5 SGND (power), 6 VDD (power), 7 BOOT, 8 SW (oc)

## LM2623MMX/NOPB
designator U?
General Purpose, Gated Oscillator Based, DC/DC Boost Converter, 8-pin MSOP, Pb-Free; PartNumber: LM2623MMX/NOPB; Manufacturer: National Semiconductor; PackageTopMarking: ZXTT*S46B; PowerWise: N; CompType: MiscPower; Published: 1-Mar-2010; DatasheetVersion: Dec-2005; PackageVersion: revF, Apr-2008; PackageReference: MUA08A; Publisher: Altium Limited; PackageDescription: MINI SOIC, .118 x .118 x .034in, 8 Lead, .0256in Pitch; Supplier 1: Digi-Key; Supplier Part Number 1: LM2623MMX-ND; RoHS: Y; PinCount: 8; Code_JEDEC: MO-187-AA; ComponentLink1Description: LM2623 Datasheet; ComponentLink1URL: http://www.national.com/ds/LM/LM2623.pdf; ComponentLink2Description: LM2623 Web Page; ComponentLink2URL: http://www.national.com/pf/LM/LM2623.html; ComponentLink3Description: MUA08A Package Page; ComponentLink3URL: http://www.national.com/packaging/folders/mua08a.html
footprint MUA08A_N (TSOP, 8-Leads, Body 3x3mm, Pitch 0.65mm, IPC Medium Density)
footprint MUA08A_L (TSOP, 8-Leads, Body 3x3mm, Pitch 0.65mm, IPC High Density)
footprint MUA08A_M (TSOP, 8-Leads, Body 3x3mm, Pitch 0.65mm, IPC Low Density)
pins: 1 PGND (power), 2 EN (in), 3 FREQ (in), 4 FB (in), 5 SGND (power), 6 VDD (power), 7 BOOT, 8 SW (oc)

## LM2703MF-ADJ
designator U?
Micropower Step-Up DC/DC Converter with 350mA Peak Current Limit, 5-pin SOT-23; PartNumber: LM2703MF-ADJ; Manufacturer: National Semiconductor; PackageTopMarking: S48B*XTT; PowerWise: N; CompType: MiscPower; Published: 4-Dec-2008; DatasheetVersion: Jun-2006; PackageVersion: revD, Aug-2008; PackageReference: MF05A; Publisher: Altium Limited; PackageDescription: Molded SOT-23, .115 x .063 x .040 in Body, 5 Lead, .0375 in Pitch; Supplier 1: Farnell; Supplier Part Number 1: 9779442; RoHS: N; PinCount: 5; ComponentLink1Description: LM2703 Datasheet; ComponentLink1URL: http://www.national.com/ds/LM/LM2703.pdf; ComponentLink2Description: LM2703 Web Page; ComponentLink2URL: http://www.national.com/pf/LM/LM2703.html; ComponentLink3Description: MF05A Package Page; ComponentLink3URL: http://www.national.com/packaging/folders/mf05a.html
footprint MF05A_N (SOT23, 5-Leads, Body 2.9x1.6mm, Pitch 0.95mm, Lead Span 2.8mm, IPC Medium Density)
footprint MF05A_L (SOT23, 5-Leads, Body 2.9x1.6mm, Pitch 0.95mm, Lead Span 2.8mm, IPC High Density)
footprint MF05A_M (SOT23, 5-Leads, Body 2.9x1.6mm, Pitch 0.95mm, Lead Span 2.8mm, IPC Low Density)
pins: 1 SW (power), 2 GND (power), 3 FB (in), 4 ~{SHDN} (in), 5 VIN (power)

## LM2703MF-ADJ/NOPB
designator U?
Micropower Step-Up DC/DC Converter with 350mA Peak Current Limit, 5-pin SOT-23, Pb-Free; PartNumber: LM2703MF-ADJ/NOPB; Manufacturer: National Semiconductor; PackageTopMarking: S48B*XTT; PowerWise: N; CompType: MiscPower; Published: 1-Mar-2010; DatasheetVersion: Jun-2006; PackageVersion: revD, Aug-2008; PackageReference: MF05A; Publisher: Altium Limited; PackageDescription: Molded SOT-23, .115 x .063 x .040 in Body, 5 Lead, .0375 in Pitch; Supplier 1: Digi-Key; Supplier Part Number 1: LM2703MF-ADJTR-ND; Supplier 2: Digi-Key; Supplier Part Number 2: LM2703MF-ADJCT-ND; Supplier 3: Digi-Key; Supplier Part Number 3: LM2703MF-ADJDKR-ND; Supplier 4: Farnell; Supplier Part Number 4: 1327383; RoHS: Y; PinCount: 5; ComponentLink1Description: LM2703 Datasheet; ComponentLink1URL: http://www.national.com/ds/LM/LM2703.pdf; ComponentLink2Description: LM2703 Web Page; ComponentLink2URL: http://www.national.com/pf/LM/LM2703.html; ComponentLink3Description: MF05A Package Page; ComponentLink3URL: http://www.national.com/packaging/folders/mf05a.html
footprint MF05A_N (SOT23, 5-Leads, Body 2.9x1.6mm, Pitch 0.95mm, Lead Span 2.8mm, IPC Medium Density)
footprint MF05A_L (SOT23, 5-Leads, Body 2.9x1.6mm, Pitch 0.95mm, Lead Span 2.8mm, IPC High Density)
footprint MF05A_M (SOT23, 5-Leads, Body 2.9x1.6mm, Pitch 0.95mm, Lead Span 2.8mm, IPC Low Density)
pins: 1 SW (power), 2 GND (power), 3 FB (in), 4 ~{SHDN} (in), 5 VIN (power)

## LM2704MF-ADJ
designator U?
Micropower Step-up DC/DC Converter with 550mA Peak Current Limit, 5-pin SOT-23; PartNumber: LM2704MF-ADJ; Manufacturer: National Semiconductor; PackageTopMarking: S28B*XTT; PowerWise: N; CompType: MiscPower; Published: 4-Dec-2008; DatasheetVersion: Apr-2003; PackageVersion: revD, Aug-2008; PackageReference: MF05A; Publisher: Altium Limited; PackageDescription: Molded SOT-23, .115 x .063 x .040 in Body, 5 Lead, .0375 in Pitch; Supplier 1: Digi-Key; Supplier Part Number 1: LM2704MF-ADJTR-ND; Supplier 2: Digi-Key; Supplier Part Number 2: LM2704MF-ADJCT-ND; Supplier 3: Farnell; Supplier Part Number 3: 8207461; RoHS: N; PinCount: 5; ComponentLink1Description: LM2704 Datasheet; ComponentLink1URL: http://www.national.com/ds/LM/LM2704.pdf; ComponentLink2Description: LM2704 Web Page; ComponentLink2URL: http://www.national.com/pf/LM/LM2704.html; ComponentLink3Description: MF05A Package Page; ComponentLink3URL: http://www.national.com/packaging/folders/mf05a.html
footprint MF05A_N (SOT23, 5-Leads, Body 2.9x1.6mm, Pitch 0.95mm, Lead Span 2.8mm, IPC Medium Density)
footprint MF05A_L (SOT23, 5-Leads, Body 2.9x1.6mm, Pitch 0.95mm, Lead Span 2.8mm, IPC High Density)
footprint MF05A_M (SOT23, 5-Leads, Body 2.9x1.6mm, Pitch 0.95mm, Lead Span 2.8mm, IPC Low Density)
pins: 1 SW (power), 2 GND (power), 3 FB (in), 4 ~{SHDN} (in), 5 VIN (power)

## LM2704MF-ADJ/NOPB
designator U?
Micropower Step-up DC/DC Converter with 550mA Peak Current Limit, 5-pin SOT-23, Pb-Free; PartNumber: LM2704MF-ADJ/NOPB; Manufacturer: National Semiconductor; PackageTopMarking: S28B*XTT; PowerWise: N; CompType: MiscPower; Published: 1-Mar-2010; DatasheetVersion: Apr-2003; PackageVersion: revD, Aug-2008; PackageReference: MF05A; Publisher: Altium Limited; PackageDescription: Molded SOT-23, .115 x .063 x .040 in Body, 5 Lead, .0375 in Pitch; Supplier 1: Digi-Key; Supplier Part Number 1: LM2704MF-ADJ/NOPBTR-ND; Supplier 2: Digi-Key; Supplier Part Number 2: LM2704MF-ADJ/NOPBCT-ND; Supplier 3: Digi-Key; Supplier Part Number 3: LM2704MF-ADJ/NOPBDKR-ND; Supplier 4: Farnell; Supplier Part Number 4: 1323268; RoHS: Y; PinCount: 5; ComponentLink1Description: LM2704 Datasheet; ComponentLink1URL: http://www.national.com/ds/LM/LM2704.pdf; ComponentLink2Description: LM2704 Web Page; ComponentLink2URL: http://www.national.com/pf/LM/LM2704.html; ComponentLink3Description: MF05A Package Page; ComponentLink3URL: http://www.national.com/packaging/folders/mf05a.html
footprint MF05A_N (SOT23, 5-Leads, Body 2.9x1.6mm, Pitch 0.95mm, Lead Span 2.8mm, IPC Medium Density)
footprint MF05A_L (SOT23, 5-Leads, Body 2.9x1.6mm, Pitch 0.95mm, Lead Span 2.8mm, IPC High Density)
footprint MF05A_M (SOT23, 5-Leads, Body 2.9x1.6mm, Pitch 0.95mm, Lead Span 2.8mm, IPC Low Density)
pins: 1 SW (power), 2 GND (power), 3 FB (in), 4 ~{SHDN} (in), 5 VIN (power)

## LM2705MF-ADJ
designator U?
Micropower Step-up DC/DC Converter with 150mA Peak Current Limit, 5-pin SOT-23; PartNumber: LM2705MF-ADJ; Manufacturer: National Semiconductor; PackageTopMarking: S59B*XTT; PowerWise: N; CompType: MiscPower; Published: 4-Dec-2008; DatasheetVersion: Aug-2007; PackageVersion: revD, Aug-2008; PackageReference: MF05A; Publisher: Altium Limited; PackageDescription: Molded SOT-23, .115 x .063 x .040 in Body, 5 Lead, .0375 in Pitch; Supplier 1: Farnell; Supplier Part Number 1: 9779434; RoHS: N; PinCount: 5; ComponentLink1Description: LM2705 Datasheet; ComponentLink1URL: http://www.national.com/ds/LM/LM2705.pdf; ComponentLink2Description: LM2705 Web Page; ComponentLink2URL: http://www.national.com/pf/LM/LM2705.html; ComponentLink3Description: MF05A Package Page; ComponentLink3URL: http://www.national.com/packaging/folders/mf05a.html
footprint MF05A_N (SOT23, 5-Leads, Body 2.9x1.6mm, Pitch 0.95mm, Lead Span 2.8mm, IPC Medium Density)
footprint MF05A_L (SOT23, 5-Leads, Body 2.9x1.6mm, Pitch 0.95mm, Lead Span 2.8mm, IPC High Density)
footprint MF05A_M (SOT23, 5-Leads, Body 2.9x1.6mm, Pitch 0.95mm, Lead Span 2.8mm, IPC Low Density)
pins: 1 SW (power), 2 GND (power), 3 FB (in), 4 ~{SHDN} (in), 5 VIN (power)

## LM2705MF-ADJ/NOPB
designator U?
Micropower Step-up DC/DC Converter with 150mA Peak Current Limit, 5-pin SOT-23, Pb-Free; PartNumber: LM2705MF-ADJ/NOPB; Manufacturer: National Semiconductor; PackageTopMarking: S59B*XTT; PowerWise: N; CompType: MiscPower; Published: 1-Mar-2010; DatasheetVersion: Aug-2007; PackageVersion: revD, Aug-2008; PackageReference: MF05A; Publisher: Altium Limited; PackageDescription: Molded SOT-23, .115 x .063 x .040 in Body, 5 Lead, .0375 in Pitch; Supplier 1: Digi-Key; Supplier Part Number 1: LM2705MF-ADJTR-ND; Supplier 2: Digi-Key; Supplier Part Number 2: LM2705MF-ADJCT-ND; Supplier 3: Digi-Key; Supplier Part Number 3: LM2705MF-ADJDKR-ND; Supplier 4: Farnell; Supplier Part Number 4: 1694008; RoHS: Y; PinCount: 5; ComponentLink1Description: LM2705 Datasheet; ComponentLink1URL: http://www.national.com/ds/LM/LM2705.pdf; ComponentLink2Description: LM2705 Web Page; ComponentLink2URL: http://www.national.com/pf/LM/LM2705.html; ComponentLink3Description: MF05A Package Page; ComponentLink3URL: http://www.national.com/packaging/folders/mf05a.html
footprint MF05A_N (SOT23, 5-Leads, Body 2.9x1.6mm, Pitch 0.95mm, Lead Span 2.8mm, IPC Medium Density)
footprint MF05A_L (SOT23, 5-Leads, Body 2.9x1.6mm, Pitch 0.95mm, Lead Span 2.8mm, IPC High Density)
footprint MF05A_M (SOT23, 5-Leads, Body 2.9x1.6mm, Pitch 0.95mm, Lead Span 2.8mm, IPC Low Density)
pins: 1 SW (power), 2 GND (power), 3 FB (in), 4 ~{SHDN} (in), 5 VIN (power)

## LM2716MTX
designator U?
Dual (Step-Up and Step-Down) PWM DC/DC Converter, 24-pin TSSOP; PartNumber: LM2716MTX; Manufacturer: National Semiconductor; PackageTopMarking: NSUZXYTT*LM2716MT; PowerWise: N; CompType: MiscPower; Published: 1-Mar-2010; DatasheetVersion: Nov-2005; PackageVersion: revE, Mar-2003; PackageReference: MTC24; Publisher: Altium Limited; PackageDescription: Molded TSSOP, Jedec, 7.8 x 4.4 x 0.9mm Body, 24 Lead, 0.65mm Pitch; RoHS: N; PinCount: 24; Code_JEDEC: MO-153-AD; ComponentLink1Description: LM2716 Datasheet; ComponentLink1URL: http://www.national.com/ds/LM/LM2716.pdf; ComponentLink2Description: LM2716 Web Page; ComponentLink2URL: http://www.national.com/pf/LM/LM2716.html; ComponentLink3Description: MTC24 Package Page; ComponentLink3URL: http://www.national.com/packaging/folders/mtc24.html
footprint MTC24_N (TSOP, 24-Leads, Body 7.8x4.4mm, Pitch 0.65mm, IPC Medium Density)
footprint MTC24_L (TSOP, 24-Leads, Body 7.8x4.4mm, Pitch 0.65mm, IPC High Density)
footprint MTC24_M (TSOP, 24-Leads, Body 7.8x4.4mm, Pitch 0.65mm, IPC Low Density)
pins: 1 PGND (power) "Power ground. AGND and PGND pins must be connected together directly at the part.", 2 FB1 (in) "Buck output voltage feedback input.", 3 VC1 (in) "Buck compensation network connection. Connected to the output of the voltage error amplifier.", 4 VBG (in) "Bandgap connection.", 5 SS2 (in) "Boost soft start pin.", 6 VC2 (in) "Boost compensation network connection. Connected to the output of the voltage error amplifier.", 7 FB2 (in) "Boost output voltage feedback input.", 8 AGND (power) "Analog ground. AGND and PGND pins must be connected together directly at the part.", 9 AGND (power) "Analog ground. AGND and PGND pins must be connected together directly at the part.", 10 PGND (power) "Power ground. AGND and PGND pins must be connected together directly at the part.", 11 PGND (power) "Power ground. AGND and PGND pins must be connected together directly at the part.", 12 PGND (power) "Power ground. AGND and PGND pins must be connected together directly at the part.", 13 SW2 (in) "Boost power switch input.", 14 SW2 (in) "Boost power switch input.", 15 SW2 (in) "Boost power switch input.", 16 VIN (power) "Analog power input. VIN pins must be connected together directly at the DUT.", 17 VIN (power) "Analog power input. VIN pins must be connected together directly at the DUT.", 18 ~{SHDN2} (in) "Shutdown pin for Boost converter. Active low.", 19 FSLCT (in) "Switching frequency select input.", 20 SS1 (in) "Buck soft start pin.", 21 ~{SHDN1} (in) "Shutdown pin for Buck converter. Active low.", 22 CB1 (in) "Buck converter bootstrap capacitor connection.", 23 VIN (power) "Analog power input. VIN pins must be connected together directly at the DUT.", 24 SW1 (in) "Buck power switch input. Switch connected between VIN pins and SW1 pin."

## LM2716MTX/NOPB
designator U?
Dual (Step-Up and Step-Down) PWM DC/DC Converter, 24-pin TSSOP, Pb-Free; PartNumber: LM2716MTX/NOPB; Manufacturer: National Semiconductor; PackageTopMarking: NSUZXYTT*LM2716MT; PowerWise: N; CompType: MiscPower; Published: 1-Mar-2010; DatasheetVersion: Nov-2005; PackageVersion: revE, Mar-2003; PackageReference: MTC24; Publisher: Altium Limited; PackageDescription: Molded TSSOP, Jedec, 7.8 x 4.4 x 0.9mm Body, 24 Lead, 0.65mm Pitch; Supplier 1: Digi-Key; Supplier Part Number 1: LM2716MTX-ND; RoHS: Y; PinCount: 24; Code_JEDEC: MO-153-AD; ComponentLink1Description: LM2716 Datasheet; ComponentLink1URL: http://www.national.com/ds/LM/LM2716.pdf; ComponentLink2Description: LM2716 Web Page; ComponentLink2URL: http://www.national.com/pf/LM/LM2716.html; ComponentLink3Description: MTC24 Package Page; ComponentLink3URL: http://www.national.com/packaging/folders/mtc24.html
footprint MTC24_N (TSOP, 24-Leads, Body 7.8x4.4mm, Pitch 0.65mm, IPC Medium Density)
footprint MTC24_L (TSOP, 24-Leads, Body 7.8x4.4mm, Pitch 0.65mm, IPC High Density)
footprint MTC24_M (TSOP, 24-Leads, Body 7.8x4.4mm, Pitch 0.65mm, IPC Low Density)
pins: 1 PGND (power) "Power ground. AGND and PGND pins must be connected together directly at the part.", 2 FB1 (in) "Buck output voltage feedback input.", 3 VC1 (in) "Buck compensation network connection. Connected to the output of the voltage error amplifier.", 4 VBG (in) "Bandgap connection.", 5 SS2 (in) "Boost soft start pin.", 6 VC2 (in) "Boost compensation network connection. Connected to the output of the voltage error amplifier.", 7 FB2 (in) "Boost output voltage feedback input.", 8 AGND (power) "Analog ground. AGND and PGND pins must be connected together directly at the part.", 9 AGND (power) "Analog ground. AGND and PGND pins must be connected together directly at the part.", 10 PGND (power) "Power ground. AGND and PGND pins must be connected together directly at the part.", 11 PGND (power) "Power ground. AGND and PGND pins must be connected together directly at the part.", 12 PGND (power) "Power ground. AGND and PGND pins must be connected together directly at the part.", 13 SW2 (in) "Boost power switch input.", 14 SW2 (in) "Boost power switch input.", 15 SW2 (in) "Boost power switch input.", 16 VIN (power) "Analog power input. VIN pins must be connected together directly at the DUT.", 17 VIN (power) "Analog power input. VIN pins must be connected together directly at the DUT.", 18 ~{SHDN2} (in) "Shutdown pin for Boost converter. Active low.", 19 FSLCT (in) "Switching frequency select input.", 20 SS1 (in) "Buck soft start pin.", 21 ~{SHDN1} (in) "Shutdown pin for Buck converter. Active low.", 22 CB1 (in) "Buck converter bootstrap capacitor connection.", 23 VIN (power) "Analog power input. VIN pins must be connected together directly at the DUT.", 24 SW1 (in) "Buck power switch input. Switch connected between VIN pins and SW1 pin."

## LM2717MT
designator U?
Dual Step-Down DC/DC Converter, 24-pin TSSOP; PartNumber: LM2717MT; Manufacturer: National Semiconductor; PackageTopMarking: NSUZXYTTE#*LM2717MT; PowerWise: N; CompType: MiscPower; Published: 4-Dec-2008; DatasheetVersion: Mar-2008; PackageVersion: revE, Mar-2003; PackageReference: MTC24; Publisher: Altium Limited; PackageDescription: Molded TSSOP, Jedec, 7.8 x 4.4 x 0.9mm Body, 24 Lead, 0.65mm Pitch; RoHS: N; PinCount: 24; Code_JEDEC: MO-153-AD; ComponentLink1Description: LM2717 Datasheet; ComponentLink1URL: http://www.national.com/ds/LM/LM2717.pdf; ComponentLink2Description: LM2717 Web Page; ComponentLink2URL: http://www.national.com/pf/LM/LM2717.html; ComponentLink3Description: MTC24 Package Page; ComponentLink3URL: http://www.national.com/packaging/folders/mtc24.html
footprint MTC24_N (TSOP, 24-Leads, Body 7.8x4.4mm, Pitch 0.65mm, IPC Medium Density)
footprint MTC24_L (TSOP, 24-Leads, Body 7.8x4.4mm, Pitch 0.65mm, IPC High Density)
footprint MTC24_M (TSOP, 24-Leads, Body 7.8x4.4mm, Pitch 0.65mm, IPC Low Density)
pins: 1 PGND (power) "Power ground. AGND and PGND pins must be connected together directly at the part.", 2 PGND (power) "Power ground. AGND and PGND pins must be connected together directly at the part.", 3 AGND (power) "Analog ground. AGND and PGND pins must be connected together directly at the part.", 4 FB1 (in) "Fixed buck output voltage feedback input.", 5 VC1 (in) "Fixed buck compensation network connection. Connected to the output of the voltage error amplifier.", 6 VBG (in) "Bandgap connection.", 7 VC2 (in) "Adjustable buck compensation network connection.", 8 FB2 (in) "Adjustable buck output voltage feedback input.", 9 AGND (power) "Analog ground. AGND and PGND pins must be connected together directly at the part.", 10 AGND (power) "Analog ground. AGND and PGND pins must be connected together directly at the part.", 11 PGND (power) "Power ground. AGND and PGND pins must be connected together directly at the part.", 12 PGND (power) "Power ground. AGND and PGND pins must be connected together directly at the part.", 13 SW2 (in) "Adjustable buck power switch input.", 14 VIN (power) "Analog power input.", 15 VIN (power) "Analog power input.", 16 CB2 (in) "Adjustable buck converter bootstrap capacitor connection.", 17 ~{SHDN2} (in) "Shutdown pin for adjustable buck converter. Active low.", 18 SS2 (in) "Adjustable buck soft start pin.", 19 FSLCT (in) "Switching frequency select input.", 20 SS1 (in) "Fixed buck soft start pin.", 21 ~{SHDN1} (in) "Shutdown pin for fixed buck converter. Active low.", 22 CB1 (in) "Fixed buck converter bootstrap capacitor connection.", 23 VIN (power) "Analog power input.", 24 SW1 (in) "Fixed buck power switch input. Switch connected between VIN pins and SW1 pin."

## LM2717MT-ADJ
designator U?
Dual Step-Down DC/DC Converter, 24-pin TSSOP; PartNumber: LM2717MT-ADJ; Manufacturer: National Semiconductor; PackageTopMarking: NSUZXYTTE#*LM2717*MT-ADJ; PowerWise: N; CompType: MiscPower; Published: 4-Dec-2008; DatasheetVersion: Mar-2008; PackageVersion: revE, Mar-2003; PackageReference: MTC24; Publisher: Altium Limited; PackageDescription: Molded TSSOP, Jedec, 7.8 x 4.4 x 0.9mm Body, 24 Lead, 0.65mm Pitch; Supplier 1: Farnell; Supplier Part Number 1: 1286743; RoHS: N; PinCount: 24; Code_JEDEC: MO-153-AD; ComponentLink1Description: LM2717 Datasheet; ComponentLink1URL: http://www.national.com/ds/LM/LM2717-ADJ.pdf; ComponentLink2Description: LM2717 Web Page; ComponentLink2URL: http://www.national.com/pf/LM/LM2717.html; ComponentLink3Description: MTC24 Package Page; ComponentLink3URL: http://www.national.com/packaging/folders/mtc24.html
footprint MTC24_N (TSOP, 24-Leads, Body 7.8x4.4mm, Pitch 0.65mm, IPC Medium Density)
footprint MTC24_L (TSOP, 24-Leads, Body 7.8x4.4mm, Pitch 0.65mm, IPC High Density)
footprint MTC24_M (TSOP, 24-Leads, Body 7.8x4.4mm, Pitch 0.65mm, IPC Low Density)
pins: 1 PGND (power) "Power ground. AGND and PGND pins must be connected together directly at the part.", 2 PGND (power) "Power ground. AGND and PGND pins must be connected together directly at the part.", 3 AGND (power) "Analog ground. AGND and PGND pins must be connected together directly at the part.", 4 FB1 (in) "Fixed buck output voltage feedback input.", 5 VC1 (in) "Fixed buck compensation network connection. Connected to the output of the voltage error amplifier.", 6 VBG (in) "Bandgap connection.", 7 VC2 (in) "Adjustable buck compensation network connection.", 8 FB2 (in) "Adjustable buck output voltage feedback input.", 9 AGND (power) "Analog ground. AGND and PGND pins must be connected together directly at the part.", 10 AGND (power) "Analog ground. AGND and PGND pins must be connected together directly at the part.", 11 PGND (power) "Power ground. AGND and PGND pins must be connected together directly at the part.", 12 PGND (power) "Power ground. AGND and PGND pins must be connected together directly at the part.", 13 SW2 (in) "Adjustable buck power switch input.", 14 VIN (power) "Analog power input.", 15 VIN (power) "Analog power input.", 16 CB2 (in) "Adjustable buck converter bootstrap capacitor connection.", 17 ~{SHDN2} (in) "Shutdown pin for adjustable buck converter. Active low.", 18 SS2 (in) "Adjustable buck soft start pin.", 19 FSLCT (in) "Switching frequency select input.", 20 SS1 (in) "Fixed buck soft start pin.", 21 ~{SHDN1} (in) "Shutdown pin for fixed buck converter. Active low.", 22 CB1 (in) "Fixed buck converter bootstrap capacitor connection.", 23 VIN (power) "Analog power input.", 24 SW1 (in) "Fixed buck power switch input. Switch connected between VIN pins and SW1 pin."